# Altium footprint library Fasteners.PcbLib: 9 footprints
Each footprint in its own frame and in the unit in brackets; x right, y up, seen from the top. Pads: shape width x height; smd on the part's side, far side on the other; paste and mask are expansions set on the pad; w line width, h text height; cw(c..) or ccw(c..) is an arc to the next point about the centre after c.
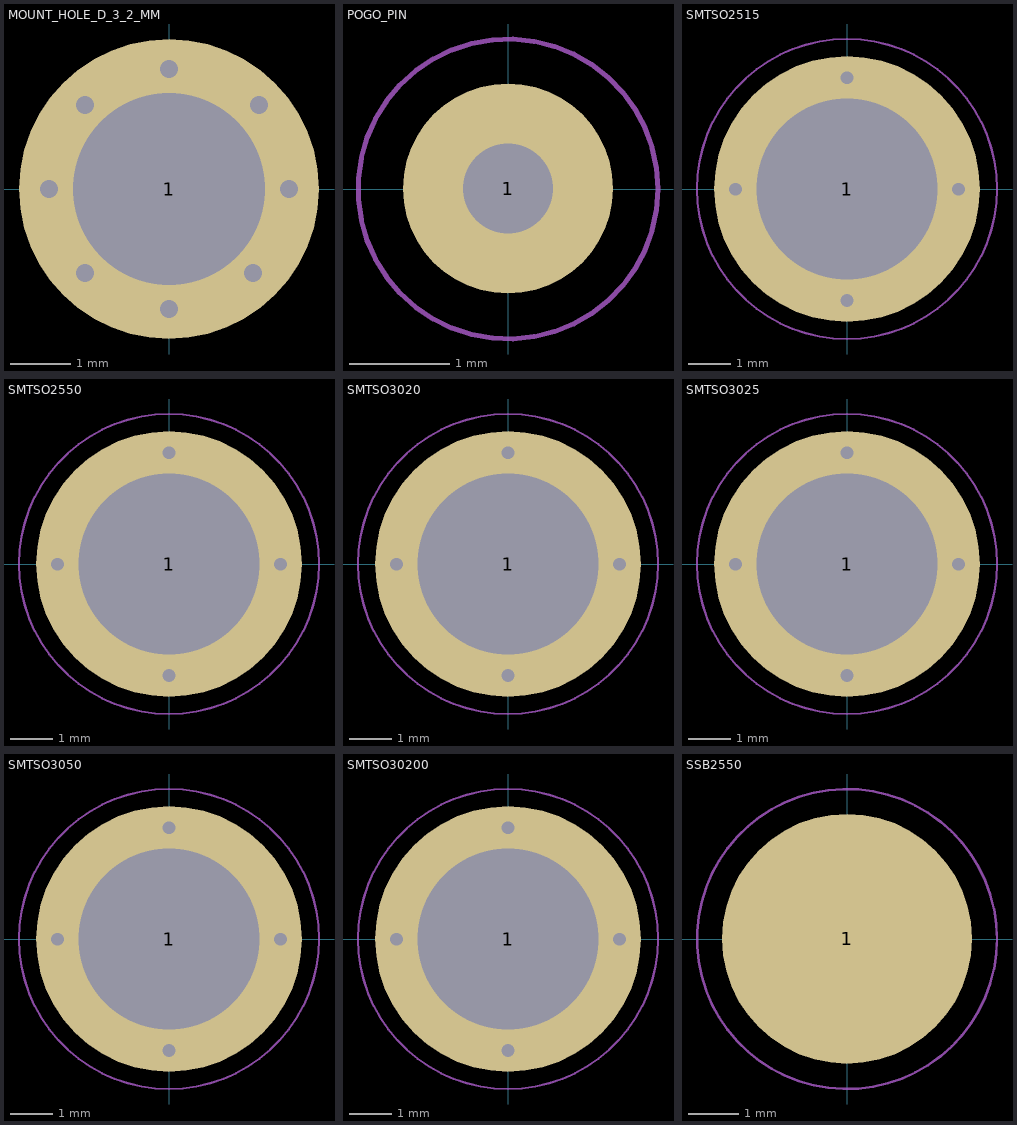
[diagram p0: the footprints below, top view; thin cyan lines are the x and y axes]

## MOUNT_HOLE_D_3_2_MM [mm]
pads (1):
  round 5 hole 3.2 mask+0.05: 1(0,0)
via 0,2 diameter 0.6 hole 0.3
via 1.5,1.4 diameter 0.6 hole 0.3
via 2,0 diameter 0.6 hole 0.3
via 1.4,-1.4 diameter 0.6 hole 0.3
via 0,-2 diameter 0.6 hole 0.3
via -1.4,-1.4 diameter 0.6 hole 0.3
via -2,0 diameter 0.6 hole 0.3
via -1.4,1.4 diameter 0.6 hole 0.3

## POGO_PIN [mm]
height 5
pads (1):
  round 2.1 hole 0.9 mask+0.05: 1(0,0.005)
Top Assembly:
  circle w0.05: c0,0 r1
Top Courtyard:
  circle w0.05: c0,0 r1.5
Top Component Center:
  lines w0.05: -0.15,0 0.15,0 ; 0,-0.15 0,0.15
3D body "mill-max-0930.STEP": height 4.42, standoff -0.64, extent -0.914,-0.903 0.914,0.913

## SMTSO2515 [mm]
height 1.5
pads (1):
  round 6.2 / inner round 6.2 / far side round 0 hole 4.22 unplated mask+0.05: 1(0,0.005)
via 0,2.6 diameter 0.6 hole 0.3
via 0,-2.6 diameter 0.6 hole 0.3
via -2.6,0 diameter 0.6 hole 0.3
via 2.6,0 diameter 0.6 hole 0.3
Top Courtyard:
  circle w0.05: c0,0.005 r3.5
Top Component Center:
  lines w0.05: -0.5,0 0.5,0 ; 0,-0.5 0,0.5
3D body "NUT SMD M2,5 H02mm.stp": height 1.5, standoff -1.9, extent -2.55,-2.55 2.546,2.55

## SMTSO2550 [mm]
height 5
pads (1):
  round 6.2 / inner round 6.2 / far side round 0 hole 4.22 unplated mask+0.05: 1(0,0.005)
via 0,2.6 diameter 0.6 hole 0.3
via 0,-2.6 diameter 0.6 hole 0.3
via -2.6,0 diameter 0.6 hole 0.3
via 2.6,0 diameter 0.6 hole 0.3
Top Courtyard:
  circle w0.05: c0,0.005 r3.5
Top Component Center:
  lines w0.05: -0.5,0 0.5,0 ; 0,-0.5 0,0.5
3D body "NUT SMD M2,5 H05mm.stp": height 5, standoff -1.4, extent -2.596,-2.55 2.5,2.55

## SMTSO3020 [mm]
height 2.5
pads (1):
  round 6.2 / inner round 6.2 / far side round 0 hole 4.22 unplated mask+0.05: 1(0,0.005)
via 0,2.6 diameter 0.6 hole 0.3
via 0,-2.6 diameter 0.6 hole 0.3
via -2.6,0 diameter 0.6 hole 0.3
via 2.6,0 diameter 0.6 hole 0.3
Top Courtyard:
  circle w0.05: c0,0.005 r3.5
Top Component Center:
  lines w0.05: -0.5,0 0.5,0 ; 0,-0.5 0,0.5
3D body "NUT SMD M2,5 H02mm.stp": height 2, standoff -1.4, extent -2.55,-2.55 2.55,2.546

## SMTSO3025 [mm]
height 2.5
pads (1):
  round 6.2 / inner round 6.2 / far side round 0 hole 4.22 unplated mask+0.05: 1(0,0.005)
via 0,2.6 diameter 0.6 hole 0.3
via 0,-2.6 diameter 0.6 hole 0.3
via -2.6,0 diameter 0.6 hole 0.3
via 2.6,0 diameter 0.6 hole 0.3
Top Courtyard:
  circle w0.05: c0,0.005 r3.5
Top Component Center:
  lines w0.05: -0.5,0 0.5,0 ; 0,-0.5 0,0.5
3D body "NUT SMD M2,5 H03mm.stp": height 3, standoff -1.4, extent -2.55,-2.55 2.546,2.55

## SMTSO3050 [mm]
height 2.5
pads (1):
  round 6.2 / inner round 6.2 / far side round 0 hole 4.22 unplated mask+0.05: 1(0,0.005)
via 2.6,0 diameter 0.6 hole 0.3
via -2.6,0 diameter 0.6 hole 0.3
via 0,-2.6 diameter 0.6 hole 0.3
via 0,2.6 diameter 0.6 hole 0.3
Top Courtyard:
  circle w0.05: c0,0.005 r3.5
Top Component Center:
  lines w0.05: -0.5,0 0.5,0 ; 0,-0.5 0,0.5
3D body "NUT SMD M2,5 H05mm.stp": height 5, standoff -1.4, extent -2.596,-2.6 2.5,2.5

## SMTSO30200 [mm]
height 2.5
pads (1):
  round 6.2 / inner round 6.2 / far side round 0 hole 4.22 unplated mask+0.05: 1(0,0.005)
via 2.6,0 diameter 0.6 hole 0.3
via -2.6,0 diameter 0.6 hole 0.3
via 0,-2.6 diameter 0.6 hole 0.3
via 0,2.6 diameter 0.6 hole 0.3
Top Courtyard:
  circle w0.05: c0,0.005 r3.5
Top Component Center:
  lines w0.05: -0.5,0 0.5,0 ; 0,-0.5 0,0.5
3D body "NUT SMD M2,5 H10mm.stp": height 10, standoff -1.4, extent -2.55,-2.545 2.546,2.555
3D body "NUT SMD M2,5 H10mm.stp": height 20, standoff 8.6, extent -2.55,-2.545 2.546,2.555

## SSB2550 [mm]
height 5
pads (1):
  round 5 smd mask+0.05: 1(0,0.005)
Top Assembly:
  circle w0.05: c0,0 r2.25
Top Courtyard:
  circle w0.05: c0,0 r3
Top Component Center:
  lines w0.05: -0.5,0 0.5,0 ; 0,-0.5 0,0.5
3D body "NUT SMD M2,5 H04mm.stp": height 5.4, standoff 0, extent -2.55,-2.55 2.546,2.55